# Altium footprint library Sierra.PCBLIB: 4 footprints
Each footprint in its own frame and in the unit in brackets; x right, y up, seen from the top. Pads: shape width x height; smd on the part's side, far side on the other; paste and mask are expansions set on the pad; w line width, h text height; cw(c..) or ccw(c..) is an arc to the next point about the centre after c.
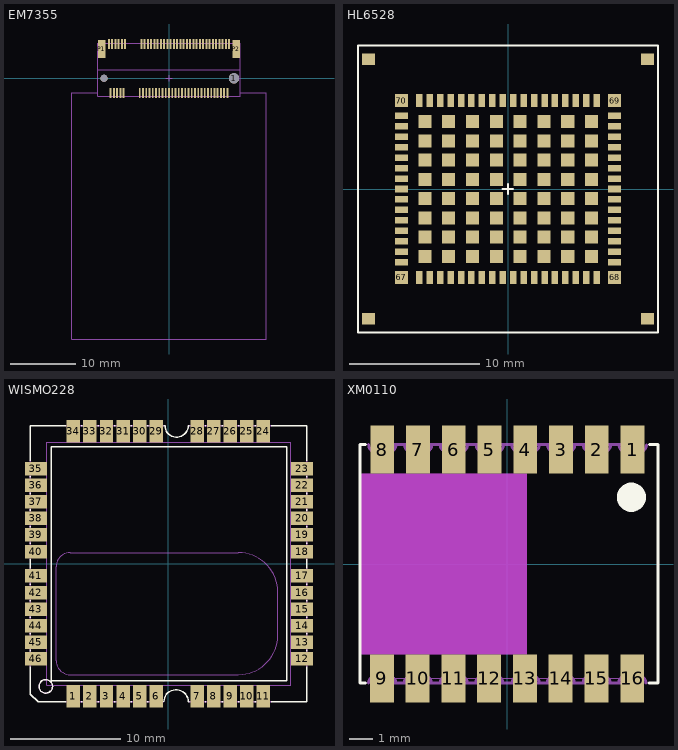
[diagram p0: the footprints below, top view; thin cyan lines are the x and y axes]

## EM7355 [mm]
pads (71):
  round 1.1 hole 1.1: 1(-10,0)
  rect 0.3x1.55 smd: 1(-9.25,5.275) 2(-9,-2.275) 3(-8.75,5.275) 4(-8.5,-2.275) 5(-8.25,5.275) 6(-8,-2.275) 7(-7.75,5.275) 8(-7.5,-2.275) 9(-7.25,5.275) 10(-7,-2.275) 11(-6.75,5.275) 20(-4.5,-2.275) 21(-4.25,5.275) 22(-4,-2.275) 23(-3.75,5.275) 24(-3.5,-2.275) 25(-3.25,5.275) 26(-3,-2.275) 27(-2.75,5.275) 28(-2.5,-2.275) 29(-2.25,5.275) 30(-2,-2.275) 31(-1.75,5.275) 32(-1.5,-2.275) 33(-1.25,5.275) 34(-1,-2.275) 35(-0.75,5.275) 36(-0.5,-2.275) 37(-0.25,5.275) 38(0,-2.275) 39(0.25,5.275) 40(0.5,-2.275) 41(0.75,5.275) 42(1,-2.275) 43(1.25,5.275) 44(1.5,-2.275) 45(1.75,5.275) 46(2,-2.275) 47(2.25,5.275) 48(2.5,-2.275) 49(2.75,5.275) 50(3,-2.275) 51(3.25,5.275) 52(3.5,-2.275) 53(3.75,5.275) 54(4,-2.275) 55(4.25,5.275) 56(4.5,-2.275) 57(4.75,5.275) 58(5,-2.275) 59(5.25,5.275) 60(5.5,-2.275) 61(5.75,5.275) 62(6,-2.275) 63(6.25,5.275) 64(6.5,-2.275) 65(6.75,5.275) 66(7,-2.275) 67(7.25,5.275) 68(7.5,-2.275) 69(7.75,5.275) 70(8,-2.275) 71(8.25,5.275) 72(8.5,-2.275) 73(8.75,5.275) 74(9,-2.275) 75(9.25,5.275)
  round 1.6 hole 1.6: 1(10,0)
  rect 1.2x2.75 smd: P1(-10.35,4.5) P2(10.35,4.5)
Mechanical 16:
  lines w0.127: -10.998,1.295 10.998,1.295 ; -0.484,0 0.484,0 ; 0,-0.484 0,0.484 ; -11,-2.2 -15,-2.2 -15,-40.132 15,-40.132 15,-2.2 11,-2.2 ; -11,-2.2 -11,5.41 11,5.41 11,-2.2 ; -11,-2.2 -11,-2.8 11,-2.8 11,-2.2
3D body "Mdot2_2102489_Oct30_12.stp": height 3.72, standoff 1.46, extent -15,-39.841 15,2.159
3D body "c-2199119-3-a-3d.stp": height 3.09, standoff -0.61, extent -10.95,-2.89 10.95,5.81
3D body: height 3.68, standoff 3.67, extent -13.589,-35.306 13.716,-2.794

## HL6528 [mm]
pads (138):
  rect 0.5x1 smd: 1(-6.8,-6.78) 2(-6,-6.78) 3(-5.2,-6.78) 4(-4.4,-6.78) 5(-3.6,-6.78) 6(-2.8,-6.78) 7(-2,-6.78) 8(-1.2,-6.78) 9(-0.4,-6.78) 10(0.4,-6.78) 11(1.2,-6.78) 12(2,-6.78) 13(2.8,-6.78) 14(3.6,-6.78) 15(4.4,-6.78) 16(5.2,-6.78) 17(6,-6.78) 18(6.8,-6.78) 34(6.8,6.78) 35(6,6.78) 36(5.2,6.78) 37(4.4,6.78) 38(3.6,6.78) 39(2.8,6.78) 40(2,6.78) 41(1.2,6.78) 42(0.4,6.78) 43(-0.4,6.78) 44(-1.2,6.78) 45(-2,6.78) 46(-2.8,6.78) 47(-3.6,6.78) 48(-4.4,6.78) 49(-5.2,6.78) 50(-6,6.78) 51(-6.8,6.78)
  rect 1x0.5 smd: 19(8.18,-5.6) 20(8.18,-4.8) 21(8.18,-4) 22(8.18,-3.2) 23(8.18,-2.4) 24(8.18,-1.6) 25(8.18,-0.8) 26(8.18,0) 27(8.18,0.8) 28(8.18,1.6) 29(8.18,2.4) 30(8.18,3.2) 31(8.18,4) 32(8.18,4.8) 33(8.18,5.6) 52(-8.18,5.6) 53(-8.18,4.8) 54(-8.18,4) 55(-8.18,3.2) 56(-8.18,2.4) 57(-8.18,1.6) 58(-8.18,0.8) 59(-8.18,0) 60(-8.18,-0.8) 61(-8.18,-1.6) 62(-8.18,-2.4) 63(-8.18,-3.2) 64(-8.18,-4) 65(-8.18,-4.8) 66(-8.18,-5.6)
  rect 1x1 smd: 67(-8.18,-6.78) 68(8.18,-6.78) 69(8.18,6.78) 70(-8.18,6.78) 171(-6.37,-5.165) 172(-6.37,-3.69) 173(-6.37,-2.215) 174(-6.37,-0.74) 175(-6.37,0.735) 176(-6.37,2.21) 177(-6.37,3.685) 178(-6.37,5.16) 179(-4.545,5.16) 180(-2.72,5.16) 181(-0.895,5.16) 182(0.93,5.16) 183(2.755,5.16) 184(4.58,5.16) 185(6.405,5.16) 186(6.405,3.685) 187(6.405,2.21) 188(6.405,0.735) 189(6.405,-0.74) 190(6.405,-2.215) 191(6.405,-3.69) 192(6.405,-5.165) 193(4.58,-5.165) 194(2.755,-5.165) 195(0.93,-5.165) 196(-0.895,-5.165) 197(-2.72,-5.165) 198(-4.545,-5.165) 199(-4.545,-3.69) 200(-4.545,-2.215) 201(-4.545,-0.74) 202(-4.545,0.735) 203(-4.545,2.21) 204(-4.545,3.685) 205(-2.72,3.685) 206(-0.895,3.685) 207(0.93,3.685) 208(2.755,3.685) 209(4.58,3.685) 210(4.58,2.21) 211(4.58,0.735) 212(4.58,-0.74) 213(4.58,-2.215) 214(4.58,-3.69) 215(2.755,-3.69) 216(0.93,-3.69) 217(-0.895,-3.69) 218(-2.72,-3.69) 219(-2.72,-2.215) 220(-2.72,-0.74) 221(-2.72,0.735) 222(-2.72,2.21) 223(-0.895,2.21) 224(0.93,2.21) 225(2.755,2.21) 226(2.755,0.735) 227(2.755,-0.74) 228(2.755,-2.215) 229(0.93,-2.215) 230(-0.895,-2.215) 231(-0.895,-0.74) 232(-0.895,0.735) 233(0.93,0.735) 234(0.93,-0.74)
  rect 1x0.9 smd: 167(-10.7,-9.95) 168(10.7,-9.95) 169(10.7,9.95) 170(-10.7,9.95)
Top Overlay:
  lines w0.127: -0.42,0 0,0 ; 0,-0.405 0,0 ; 0,0.415 0,0 ; 0.38,0 0,0 ; -11.5,-11 -11.5,11 11.5,11 11.5,-11 -11.5,-11
Top Paste:
  drawing of 282 lines, arcs and shapes, not listed
3D body "User Library-HL6528.step": height 2.5, standoff 0, extent -11.43,-11.049 11.57,10.951

## WISMO228 [mil]
pads (46):
  rect 48x79 smd: 1(-338.46,-472) 2(-279.4,-472) 3(-220.35,-472) 4(-161.29,-472) 5(-102.24,-472) 6(-43.18,-472) 7(103,-472) 8(162,-472) 9(221,-472) 10(280,-472) 11(339,-472) 24(339,473) 25(280,473) 26(221,473) 27(162,473) 28(103,473) 29(-43.18,473) 30(-102.24,473) 31(-161.29,473) 32(-220.35,473) 33(-279.4,473) 34(-338.46,473)
  rect 79x48 smd: 12(477,-338.46) 13(477,-279.4) 14(477,-220.35) 15(477,-161.29) 16(477,-102.24) 17(477,-43.18) 18(477,44) 19(477,103) 20(477,162) 21(477,221) 22(477,280) 23(477,339) 35(-472,339) 36(-472,280) 37(-472,221) 38(-472,162) 39(-472,103) 40(-472,44) 41(-472,-43.18) 42(-472,-102.24) 43(-472,-161.29) 44(-472,-220.35) 45(-472,-279.4) 46(-472,-338.46)
Top Overlay:
  circle w5: c-436.88,-436.88 r24
  lines w5: -492,-366.02 -492,-464.44 -464.44,-492 -366.02,-492 ; -492,-310.9 -492,-306.96 ; -492,-251.84 -492,-247.91 ; -492,-192.79 -492,-188.85 ; -492,-133.73 -492,-129.8 ; -492,-74.68 -492,-70.74 ; -492,-15.62 -492,16 ; -492,71 -492,75 ; -492,131 -492,134 ; -492,190 -492,194 ; -492,249 -492,253 ; -492,308 -492,312 ; -492,367 -492,493 -366.02,493 ; -310.9,-492 -306.96,-492 ; -310.9,493 -306.96,493 ; -251.84,-492 -247.91,-492 ; -251.84,493 -247.91,493 ; -192.79,-492 -188.85,-492 ; -192.79,493 -188.85,493 ; -133.73,-492 -129.8,-492 ; -133.73,493 -129.8,493 ; -74.68,-492 -70.74,-492 ; -74.68,493 -70.74,493 ; -15.62,-492 cw(c27.69,-492) 71,-492 75,-492 ; -15.62,493 -11.69,493 ccw(c29.66,493) 71,493 75,493 ; 131,-492 134,-492 ; 131,493 134,493 ; 190,-492 194,-492 ; 190,493 194,493 ; 249,-492 253,-492 ; 249,493 253,493 ; 308,-492 312,-492 ; 308,493 312,493 ; 367,-492 493,-492 493,-366.02 ; 367,493 493,493 493,367 ; 493,-310.9 493,-306.96 ; 493,-251.84 493,-247.91 ; 493,-192.79 493,-188.85 ; 493,-133.73 493,-129.8 ; 493,-74.68 493,-70.74 ; 493,-15.62 493,16 ; 493,71 493,75 ; 493,131 493,134 ; 493,190 493,194 ; 493,249 493,253 ; 493,308 493,312 ; -417.2,-417.2 422,-417.2 422,418 -417.2,418 -417.2,-417.2
Mechanical 4:
  text "1" at -373.89,-527.43 h20.4
Mechanical 8:
  lines w0: -400,-345 ccw(c-350,-345) -350,-395 250,-395 ccw(c250,-255) 390,-255 390,-100 ccw(c250,-100) 250,40 -350,40 ccw(c-350,-10) -400,-10 -400,-345
Mechanical 13:
  lines w0: -433,-433 437,-433 437,433 -433,433 -433,-365 -433,-366 -433,-433
Mechanical 16:
  circle w5: c-436.88,-436.88 r24
  lines w5: -492,-366.02 -492,-350.27 ccw(c-492,-342.39) -492,-334.52 -492,-310.9 ; -492,-306.96 -492,-291.21 ccw(c-492,-283.34) -492,-275.46 -492,-228.22 ccw(c-492,-220.35) -492,-212.47 -492,-169.17 ccw(c-492,-161.29) -492,-153.42 -492,-110.11 ccw(c-492,-102.24) -492,-94.36 -492,-51.06 ccw(c-492,-43.18) -492,-35.31 -492,-15.62 ; -492,16 -492,32 ccw(c-492,40) -492,48 -492,71 ; -492,75 -492,91 ccw(c-492,99) -492,107 -492,154 ccw(c-492,162) -492,170 -492,213 ccw(c-492,221) -492,229 -492,272 ccw(c-492,280) -492,288 -492,331 ccw(c-492,339) -492,347 -492,367 ; -366.02,-492 -346.33,-492 cw(c-338.46,-492) -330.58,-492 -287.28,-492 cw(c-279.4,-492) -271.53,-492 -228.22,-492 cw(c-220.35,-492) -212.47,-492 -169.17,-492 cw(c-161.29,-492) -153.42,-492 -110.11,-492 cw(c-102.24,-492) -94.36,-492 -47.12,-492 cw(c-39.24,-492) -31.37,-492 -15.62,-492 ; -366.02,493 -350.27,493 ccw(c-342.39,493) -334.52,493 -310.9,493 ; -306.96,493 -291.21,493 ccw(c-283.34,493) -275.46,493 -251.84,493 ; -247.91,493 -228.22,493 ccw(c-220.35,493) -212.47,493 -192.79,493 ; -188.85,493 -169.17,493 ccw(c-161.29,493) -153.42,493 -133.73,493 ; -129.8,493 -110.11,493 ccw(c-102.24,493) -94.36,493 -74.68,493 ; -70.74,493 -51.06,493 ccw(c-43.18,493) -35.31,493 -15.62,493 ; 75,-492 99,-492 cw(c107,-492) 115,-492 154,-492 cw(c162,-492) 170,-492 213,-492 cw(c221,-492) 229,-492 272,-492 cw(c280,-492) 288,-492 331,-492 cw(c339,-492) 347,-492 367,-492 ; 75,493 95,493 ccw(c103,493) 111,493 131,493 ; 134,493 150,493 ccw(c158,493) 166,493 190,493 ; 194,493 213,493 ccw(c221,493) 229,493 249,493 ; 253,493 272,493 ccw(c280,493) 288,493 308,493 ; 312,493 331,493 ccw(c339,493) 347,493 367,493 ; 493,-366.02 493,-346.33 cw(c493,-338.46) 493,-330.58 493,-287.28 cw(c493,-279.4) 493,-271.53 493,-228.22 cw(c493,-220.35) 493,-212.47 493,-169.17 cw(c493,-161.29) 493,-153.42 493,-106.17 cw(c493,-98.3) 493,-90.43 493,-74.68 ; 493,-70.74 493,-47.12 cw(c493,-39.24) 493,-31.37 493,-15.62 ; 493,16 493,36 cw(c493,44) 493,52 493,95 cw(c493,103) 493,111 493,154 cw(c493,162) 493,170 493,213 cw(c493,221) 493,229 493,276 cw(c493,284) 493,292 493,308 ; 493,312 493,335 cw(c493,343) 493,351 493,367
3D body "User Library-WISMO228.step": height 110.63, standoff -0.04, extent -487.13,-492.12 497.12,492.13

## XM0110 [mm]
pads (16):
  rect 1x2 smd: 1(5.251,4.806) 2(3.751,4.806) 3(2.251,4.806) 4(0.751,4.806) 5(-0.749,4.806) 6(-2.249,4.806) 7(-3.749,4.806) 8(-5.249,4.806) 9(-5.264,-4.793) 10(-3.764,-4.793) 11(-2.264,-4.793) 12(-0.764,-4.793) 13(0.736,-4.793) 14(2.236,-4.793) 15(3.736,-4.793) 16(5.236,-4.793)
Top Overlay:
  circle w1.016: c5.201,2.806 r0.102
  lines w0.127: -6.181,5.008 -6.181,-4.992 -5.949,-4.992 ; -6.181,5.009 -5.949,5.009 ; 5.938,-4.992 6.319,-4.992 6.319,5.008 ; 5.963,5.009 6.319,5.009
Mechanical 8 keep-out:
  rectangle: -6.178,-3.792 0.822,3.808
Mechanical 14:
  lines w0: -5.316,-4.788 5.548,-4.788 ; -5.266,-5.017 -5.266,-4.611
Mechanical 16:
  lines w0.127: -5.822,-4.992 cw(c-5.518,-4.992) -5.518,-4.687 -4.984,-4.687 cw(c-4.984,-4.992) -4.679,-4.992 ; -5.816,5.009 ccw(c-5.511,5.009) -5.511,4.705 -4.978,4.705 ccw(c-4.978,5.009) -4.673,5.009 ; -5.721,-4.992 5.684,-4.992 ; -5.556,5.009 5.595,5.009 ; -4.324,-4.992 cw(c-4.019,-4.992) -4.019,-4.687 -3.486,-4.687 cw(c-3.486,-4.992) -3.181,-4.992 ; -4.311,5.009 ccw(c-4.006,5.009) -4.006,4.705 -3.473,4.705 ccw(c-3.473,5.009) -3.168,5.009 ; -2.825,-4.992 cw(c-2.52,-4.992) -2.52,-4.687 -1.987,-4.687 cw(c-1.987,-4.992) -1.682,-4.992 ; -2.813,5.009 ccw(c-2.508,5.009) -2.508,4.705 -1.974,4.705 ccw(c-1.974,5.009) -1.67,5.009 ; -1.327,-4.992 cw(c-1.022,-4.992) -1.022,-4.687 -0.488,-4.687 cw(c-0.488,-4.992) -0.184,-4.992 ; -1.308,5.003 ccw(c-1.003,5.003) -1.003,4.698 -0.469,4.698 ccw(c-0.469,5.003) -0.165,5.003 ; 0.191,5.009 ccw(c0.496,5.009) 0.496,4.705 1.029,4.705 ccw(c1.029,5.009) 1.334,5.009 ; 0.197,-4.992 cw(c0.502,-4.992) 0.502,-4.687 1.036,-4.687 cw(c1.036,-4.992) 1.34,-4.992 ; 1.671,-4.992 cw(c1.975,-4.992) 1.975,-4.687 2.509,-4.687 cw(c2.509,-4.992) 2.814,-4.992 ; 1.683,5.003 ccw(c1.988,5.003) 1.988,4.698 2.521,4.698 ccw(c2.521,5.003) 2.826,5.003 ; 3.169,-4.992 cw(c3.474,-4.992) 3.474,-4.687 4.007,-4.687 cw(c4.007,-4.992) 4.312,-4.992 ; 3.188,5.009 ccw(c3.493,5.009) 3.493,4.705 4.026,4.705 ccw(c4.026,5.009) 4.331,5.009 ; 4.668,-4.992 cw(c4.973,-4.992) 4.973,-4.687 5.506,-4.687 cw(c5.506,-4.992) 5.811,-4.992 ; 4.687,5.003 ccw(c4.992,5.003) 4.992,4.698 5.525,4.698 ccw(c5.525,5.003) 5.83,5.003
3D body "User Library-XM0110_2.step": height 2.52, standoff -0.01, extent -6.25,-5.001 6.25,5.001